# Altium footprint library gb2040.PcbLib: 20 footprints (part 2 of 2)
Each footprint in its own frame and in the unit in brackets; x right, y up, seen from the top. Pads: shape width x height; smd on the part's side, far side on the other; paste and mask are expansions set on the pad; w line width, h text height; cw(c..) or ccw(c..) is an arc to the next point about the centre after c.
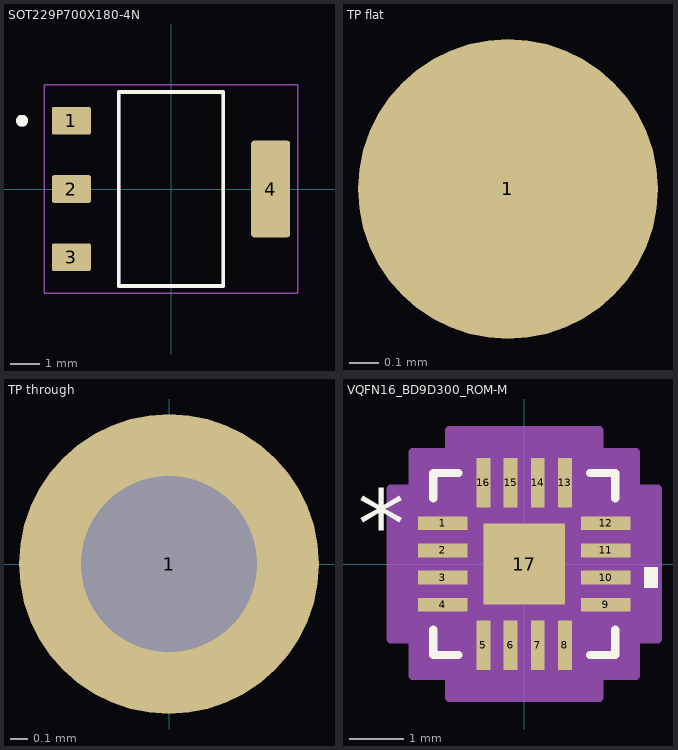
[diagram p1: the footprints below, top view; thin cyan lines are the x and y axes]

## SOT229P700X180-4N [mm]
height 1.8
pads (4):
  rrect15% 1.31x0.93 smd: 1(-3.345,2.29) 2(-3.345,0) 3(-3.345,-2.29)
  rrect15% 1.31x3.24 smd: 4(3.345,0)
Top Overlay:
  circle w0.2: c-5,2.29 r0.1
  lines w0.127: -1.753,-3.253 -1.753,3.253 1.753,3.253 1.753,-3.253 -1.753,-3.253
Mechanical 13:
  circle w0.2: c-5,2.29 r0.1
  lines w0.127: -1.753,-3.253 -1.753,3.253 1.753,3.253 1.753,-3.253 -1.753,-3.253
Mechanical 15:
  lines w0.05: -4.25,-3.502 4.25,-3.502 4.25,3.502 -4.25,3.502 -4.25,-3.502
3D body "step_temp.STEP": height 1.8, standoff 0, extent -3.499,-3.251 3.499,3.251

## TP flat [mm]
pads (1):
  round 1 smd paste-1000 mask+0: 1(-1263,-1269.5)

## TP through [mm]
pads (1):
  round 1.7 hole 1 paste-1000 mask+0: 1(0,0)

## VQFN16_BD9D300_ROM-M [mil]
pads (17):
  rect 36x10 smd paste+0 mask+0: 1(-59,29.54) 2(-59,9.85) 3(-59,-9.85) 4(-59,-29.54) 9(59,-29.54) 10(59,-9.85) 11(59,9.85) 12(59,29.54)
  rect 10x36 smd paste+0 mask+0: 5(-29.54,-59) 6(-9.85,-59) 7(9.85,-59) 8(29.54,-59) 13(29.54,59) 14(9.85,59) 15(-9.85,59) 16(-29.54,59)
  rect 59x59 smd paste+0 mask+0: 17(0,0)
Top Overlay:
  region: 87,-2.35 97,-2.35 97,-17.34 87,-17.34
  lines w6: -66,-47.63 -66,-66 -47.63,-66 ; -66,47.63 -66,66 -47.63,66 ; 47.63,-66 66,-66 66,-47.63 ; 47.63,66 66,66 66,47.63
  text "*" at -120.5,4.54 h50
Mechanical 13:
  lines w1: -61,11 -11,61 ; -61,-61 -61,61 61,61 61,-61 -61,-61 ; -61,-35.53 -61,-23.54 -61,-35.53 ; -61,-15.85 -61,-3.85 -61,-15.85 ; -61,3.85 -61,15.85 -61,3.85 ; -61,23.54 -61,35.53 -61,23.54 ; -35.53,-61 -23.54,-61 -35.53,-61 ; -35.53,61 -23.54,61 -35.53,61 ; -15.85,-61 -3.85,-61 -15.85,-61 ; -15.85,61 -3.85,61 -15.85,61 ; 3.85,-61 15.85,-61 3.85,-61 ; 3.85,61 15.85,61 3.85,61 ; 23.54,-61 35.53,-61 23.54,-61 ; 23.54,61 35.53,61 23.54,61 ; 61,-35.53 61,-23.54 61,-35.53 ; 61,-15.85 61,-3.85 61,-15.85 ; 61,3.85 61,15.85 61,3.85 ; 61,23.54 61,35.53 61,23.54
  text "*" at -22.5,4.54 h50
Mechanical 15:
  region: -54.53,-81 -81,-81 -81,-54.53 -97,-54.53 -97,54.53 -81,54.53 -81,81 -54.53,81 -54.53,97 54.53,97 54.53,81 81,81 81,54.53 97,54.53 97,-54.53 81,-54.53 81,-81 54.53,-81 54.53,-97 -54.53,-97
  lines w6: -97,-54.53 -97,54.53 -81,54.53 -81,81 -54.53,81 -54.53,97 54.53,97 54.53,81 81,81 81,54.53 97,54.53 97,-54.53 81,-54.53 81,-81 54.53,-81 54.53,-97 -54.53,-97 -54.53,-81 -81,-81 -81,-54.53 -97,-54.53
3D body "VQFN16_BD9D300_ROM.step": height 39.09, standoff 0, extent -60.98,-60.98 60.98,60.98